# Altium schematic symbol library LMH3401IRMST.SchLib: 2 symbols
Pins are listed as number, name and electrical type; pins without a type are passive.

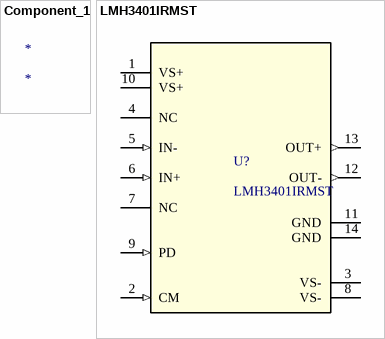
[diagram p0: symbols Component_1 to LMH3401IRMST]

## Component_1
designator *

## LMH3401IRMST
designator U?
No Description Available; Mfr_Name: Texas Instruments; Type: DEV; RefDes: RefDes; Copyright: Copyright (C) 2022 Ultra Librarian. All rights reserved.; Manufacturer_Part_Number: LMH3401IRMST
footprint RMS0014A
pins: 1 VS+ (power), 2 CM (in), 3 VS- (power), 4 NC, 5 IN- (in), 6 IN+ (in), 7 NC, 8 VS- (power), 9 PD (in), 10 VS+ (power), 11 GND (power), 12 OUT- (out), 13 OUT+ (out), 14 GND (power)